# Altium schematic symbol library PCBDEV_Library.SchLib: 236 symbols
Pins are listed as number, name and electrical type; pins without a type are passive.

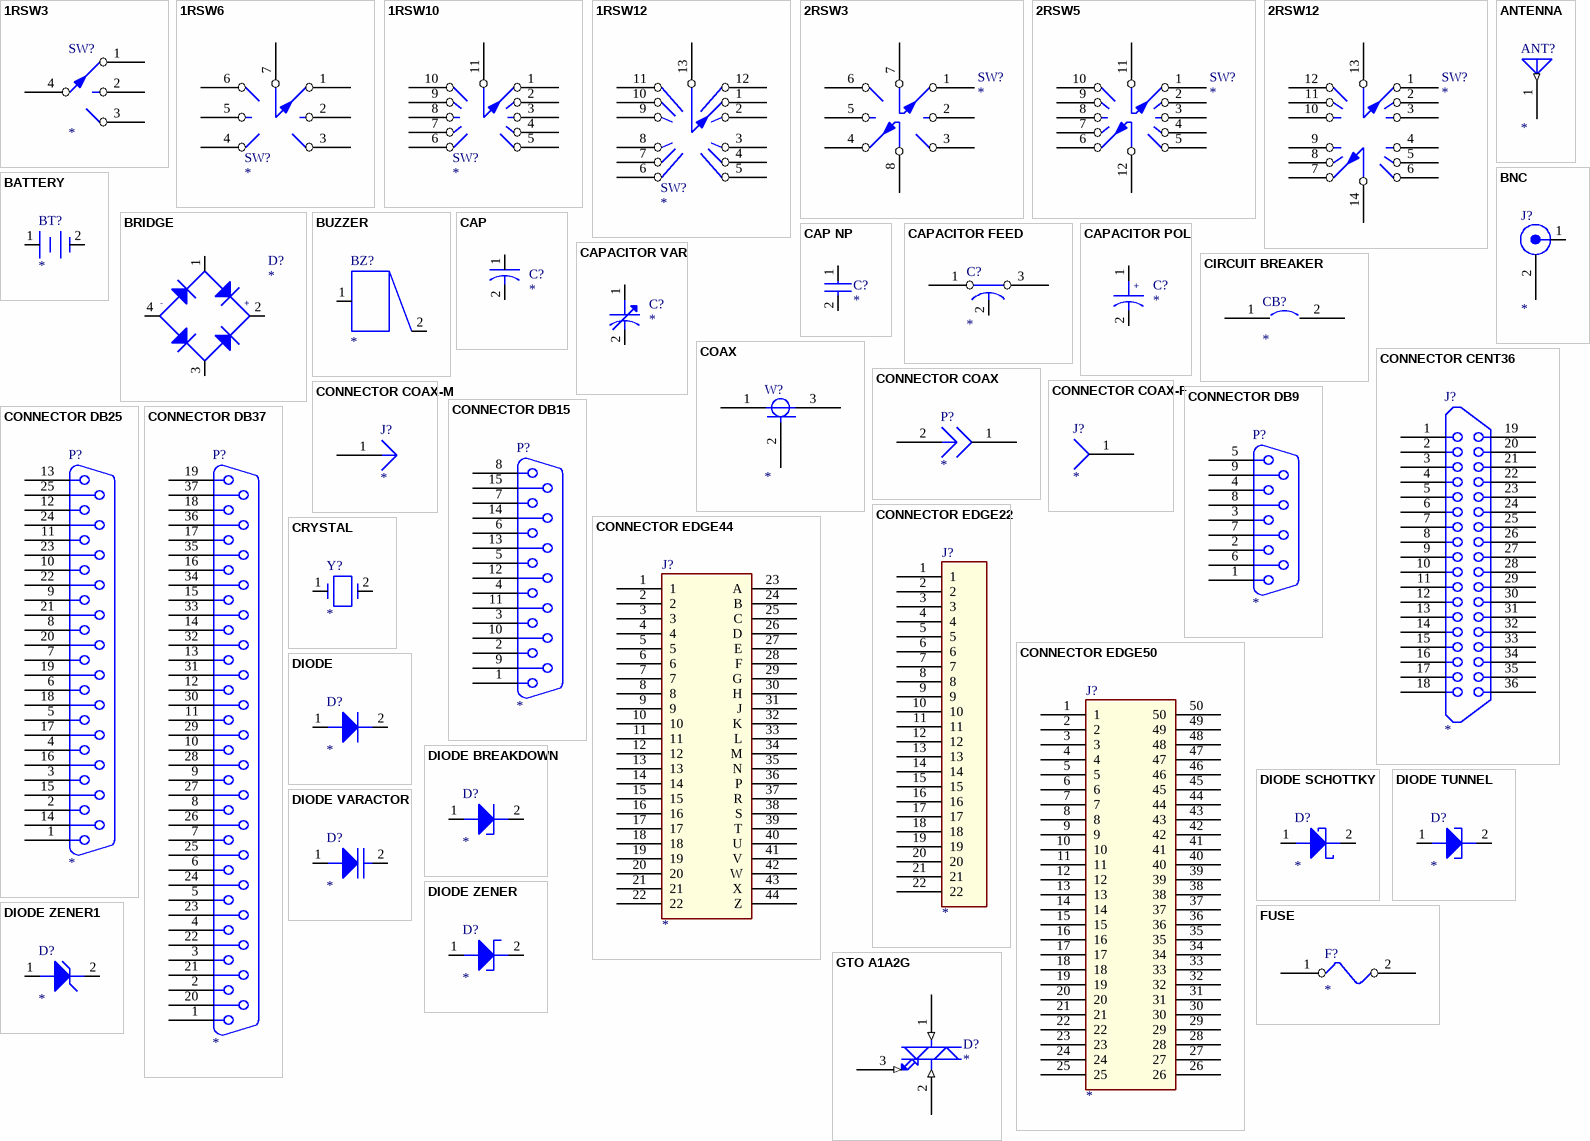
[diagram p0: symbols 1RSW3 to GTO A1A2G]

## 1RSW3
designator SW?
pins: 1 SW1, 2 SW2, 3 SW3, 4 COM

## 1RSW6
designator SW?
pins: 1 SW1, 2 SW2, 3 SW3, 4 SW4, 5 SW5, 6 SW6, 7 COM

## 1RSW10
designator SW?
pins: 1 SW1, 2 SW2, 3 SW3, 4 SW4, 5 SW5, 6 SW6, 7 SW7, 8 SW8, 9 SW9, 10 SW10, 11 COM

## 1RSW12
designator SW?
pins: 1 SW1, 2 SW2, 3 SW3, 4 SW4, 5 SW5, 6 SW6, 7 SW7, 8 SW8, 9 SW9, 10 SW10, 11 SW11, 12 SW12, 13 COM

## 2RSW3
designator SW?
pins: 1 SW1, 2 SW2, 3 SW3, 4 SW4, 5 SW5, 6 SW6, 7 COM1, 8 COM2

## 2RSW5
designator SW?
pins: 1 SW1, 2 SW2, 3 SW3, 4 SW4, 5 SW5, 6 SW6, 7 SW7, 8 SW8, 9 SW9, 10 SW10, 11 COM1, 12 COM2

## 2RSW12
designator SW?
pins: 1 SW1, 2 SW2, 3 SW3, 4 SW4, 5 SW5, 6 SW6, 7 SW7, 8 SW8, 9 SW9, 10 SW10, 11 SW11, 12 SW12, 13 COM1, 14 COM2

## ANTENNA
designator ANT?
pins: 1 (out)

## BATTERY
designator BT?
pins: 1 +, 2 -

## BNC
designator J?
pins: 1 CENTER, 2 SHIELD

## BRIDGE
designator D?
pins: 1 AC IN 1, 2 DC OUT PLUS, 3 AC IN 2, 4 DC OUT MINUS
text: -; +

## BUZZER
designator BZ?
pins: 1 A, 2 B

## CAP
designator C?
pins: 1, 2

## CAP NP
designator C?
pins: 1, 2

## CAPACITOR FEED
designator C?
pins: 1, 2 3, 3 2

## CAPACITOR POL
designator C?
pins: 1, 2
text: +

## CAPACITOR VAR
designator C?
pins: 1, 2

## CIRCUIT BREAKER
designator CB?
pins: 1, 2

## COAX
designator W?
pins: 1 CENTER 1, 2 SHIELD, 3 CENTER 2

## CONNECTOR CENT36
designator J?
pins: 1, 2, 3, 4, 5, 6, 7, 8, 9, 10, 11, 12, 13, 14, 15, 16, 17, 18, 19, 20, 21, 22, 23, 24, 25, 26, 27, 28, 29, 30, 31, 32, 33, 34, 35, 36

## CONNECTOR COAX
designator P?
pins: 1 A, 2 B

## CONNECTOR COAX-F
designator J?
pins: 1 A

## CONNECTOR COAX-M
designator J?
pins: 1 A

## CONNECTOR DB9
designator P?
pins: 1, 2, 3, 4, 5, 6, 7, 8, 9

## CONNECTOR DB15
designator P?
pins: 1, 2, 3, 4, 5, 6, 7, 8, 9, 10, 11, 12, 13, 14, 15

## CONNECTOR DB25
designator P?
pins: 1, 2, 3, 4, 5, 6, 7, 8, 9, 10, 11, 12, 13, 14, 15, 16, 17, 18, 19, 20, 21, 22, 23, 24, 25

## CONNECTOR DB37
designator P?
pins: 1, 2, 3, 4, 5, 6, 7, 8, 9, 10, 11, 12, 13, 14, 15, 16, 17, 18, 19, 20, 21, 22, 23, 24, 25, 26, 27, 28, 29, 30, 31, 32, 33, 34, 35, 36, 37

## CONNECTOR EDGE22
designator J?
pins: 1, 2, 3, 4, 5, 6, 7, 8, 9, 10, 11, 12, 13, 14, 15, 16, 17, 18, 19, 20, 21, 22

## CONNECTOR EDGE44
designator J?
pins: 1, 2, 3, 4, 5, 6, 7, 8, 9, 10, 11, 12, 13, 14, 15, 16, 17, 18, 19, 20, 21, 22, 23 A, 24 B, 25 C, 26 D, 27 E, 28 F, 29 G, 30 H, 31 J, 32 K, 33 L, 34 M, 35 N, 36 P, 37 R, 38 S, 39 T, 40 U, 41 V, 42 W, 43 X, 44 Z

## CONNECTOR EDGE50
designator J?
pins: 1, 2, 3, 4, 5, 6, 7, 8, 9, 10, 11, 12, 13, 14, 15, 16, 17, 18, 19, 20, 21, 22, 23, 24, 25, 26, 27, 28, 29, 30, 31, 32, 33, 34, 35, 36, 37, 38, 39, 40, 41, 42, 43, 44, 45, 46, 47, 48, 49, 50

## CRYSTAL
designator Y?
pins: 1, 2

## DIODE
designator D?
pins: 1 ANODE, 2 CATHODE

## DIODE BREAKDOWN
designator D?
pins: 1 ANODE, 2 CATHODE

## DIODE SCHOTTKY
designator D?
pins: 1 ANODE, 2 CATHODE

## DIODE TUNNEL
designator D?
pins: 1 ANODE, 2 CATHODE

## DIODE VARACTOR
designator D?
pins: 1 ANODE, 2 CATHODE

## DIODE ZENER
designator D?
pins: 1 ANODE, 2 CATHODE

## DIODE ZENER1
designator D?
pins: 1 ANODE, 2 CATHODE

## FUSE
designator F?
pins: 1, 2

## GTO A1A2G
designator D?
pins: 1 ANODE1 (in), 2 ANODE2 (in), 3 GATE (in)

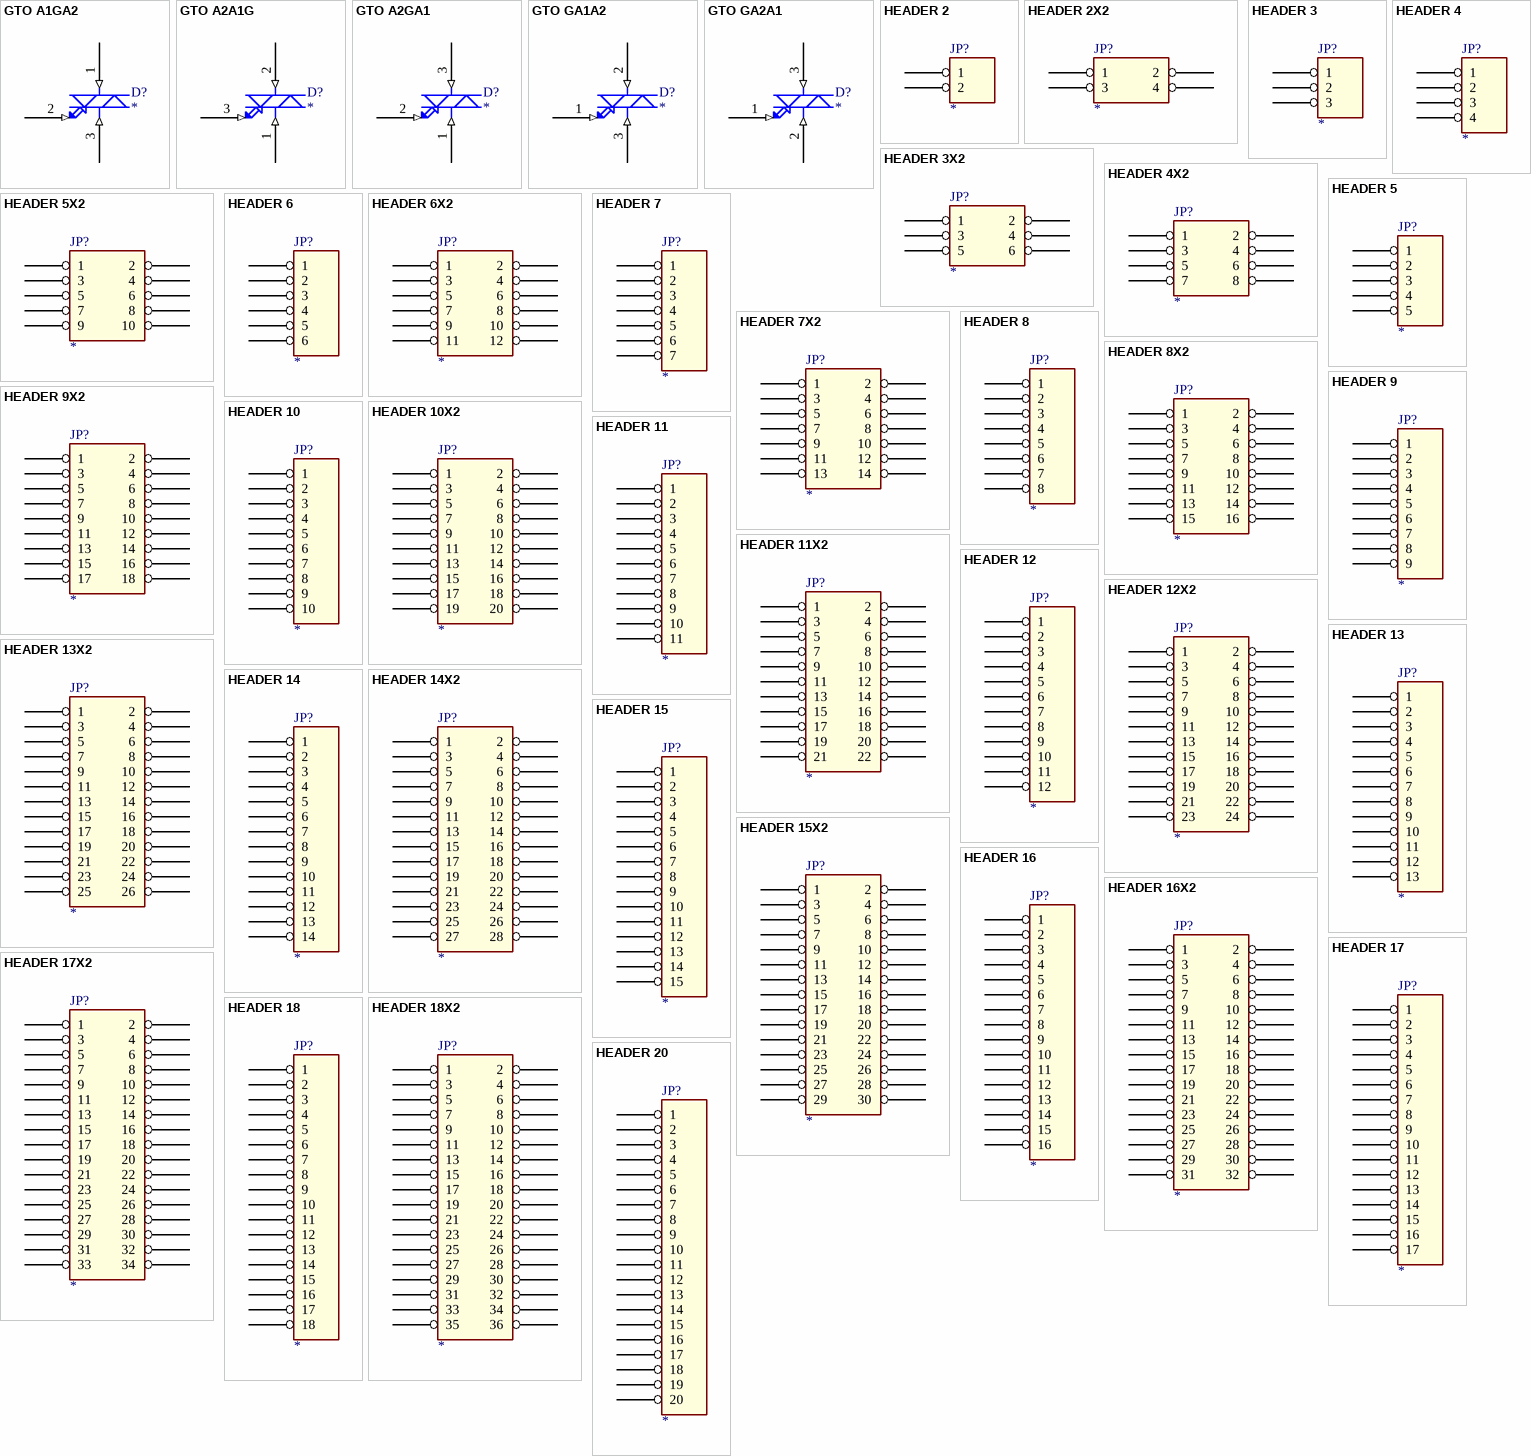
[diagram p1: symbols GTO A1GA2 to HEADER 20]

## GTO A1GA2
designator D?
pins: 1 ANODE1 (in), 2 GATE (in), 3 ANODE2 (in)

## GTO A2A1G
designator D?
pins: 1 ANODE2 (in), 2 ANODE1 (in), 3 GATE (in)

## GTO A2GA1
designator D?
pins: 1 ANODE2 (in), 2 GATE (in), 3 ANODE1 (in)

## GTO GA1A2
designator D?
pins: 1 GATE (in), 2 ANODE1 (in), 3 ANODE2 (in)

## GTO GA2A1
designator D?
pins: 1 GATE (in), 2 ANODE2 (in), 3 ANODE1 (in)

## HEADER 2
designator JP?
pins: 1, 2

## HEADER 2X2
designator JP?
pins: 1, 2, 3, 4

## HEADER 3
designator JP?
pins: 1, 2, 3

## HEADER 3X2
designator JP?
pins: 1, 2, 3, 4, 5, 6

## HEADER 4
designator JP?
pins: 1, 2, 3, 4

## HEADER 4X2
designator JP?
pins: 1, 2, 3, 4, 5, 6, 7, 8

## HEADER 5
designator JP?
pins: 1, 2, 3, 4, 5

## HEADER 5X2
designator JP?
pins: 1, 2, 3, 4, 5, 6, 7, 8, 9, 10

## HEADER 6
designator JP?
pins: 1, 2, 3, 4, 5, 6

## HEADER 6X2
designator JP?
pins: 1, 2, 3, 4, 5, 6, 7, 8, 9, 10, 11, 12

## HEADER 7
designator JP?
pins: 1, 2, 3, 4, 5, 6, 7

## HEADER 7X2
designator JP?
pins: 1, 2, 3, 4, 5, 6, 7, 8, 9, 10, 11, 12, 13, 14

## HEADER 8
designator JP?
pins: 1, 2, 3, 4, 5, 6, 7, 8

## HEADER 8X2
designator JP?
pins: 1, 2, 3, 4, 5, 6, 7, 8, 9, 10, 11, 12, 13, 14, 15, 16

## HEADER 9
designator JP?
pins: 1, 2, 3, 4, 5, 6, 7, 8, 9

## HEADER 9X2
designator JP?
pins: 1, 2, 3, 4, 5, 6, 7, 8, 9, 10, 11, 12, 13, 14, 15, 16, 17, 18

## HEADER 10
designator JP?
pins: 1, 2, 3, 4, 5, 6, 7, 8, 9, 10

## HEADER 10X2
designator JP?
pins: 1, 2, 3, 4, 5, 6, 7, 8, 9, 10, 11, 12, 13, 14, 15, 16, 17, 18, 19, 20

## HEADER 11
designator JP?
pins: 1, 2, 3, 4, 5, 6, 7, 8, 9, 10, 11

## HEADER 11X2
designator JP?
pins: 1, 2, 3, 4, 5, 6, 7, 8, 9, 10, 11, 12, 13, 14, 15, 16, 17, 18, 19, 20, 21, 22

## HEADER 12
designator JP?
pins: 1, 2, 3, 4, 5, 6, 7, 8, 9, 10, 11, 12

## HEADER 12X2
designator JP?
pins: 1, 2, 3, 4, 5, 6, 7, 8, 9, 10, 11, 12, 13, 14, 15, 16, 17, 18, 19, 20, 21, 22, 23, 24

## HEADER 13
designator JP?
pins: 1, 2, 3, 4, 5, 6, 7, 8, 9, 10, 11, 12, 13

## HEADER 13X2
designator JP?
pins: 1, 2, 3, 4, 5, 6, 7, 8, 9, 10, 11, 12, 13, 14, 15, 16, 17, 18, 19, 20, 21, 22, 23, 24, 25, 26

## HEADER 14
designator JP?
pins: 1, 2, 3, 4, 5, 6, 7, 8, 9, 10, 11, 12, 13, 14

## HEADER 14X2
designator JP?
pins: 1, 2, 3, 4, 5, 6, 7, 8, 9, 10, 11, 12, 13, 14, 15, 16, 17, 18, 19, 20, 21, 22, 23, 24, 25, 26, 27, 28

## HEADER 15
designator JP?
pins: 1, 2, 3, 4, 5, 6, 7, 8, 9, 10, 11, 12, 13, 14, 15

## HEADER 15X2
designator JP?
pins: 1, 2, 3, 4, 5, 6, 7, 8, 9, 10, 11, 12, 13, 14, 15, 16, 17, 18, 19, 20, 21, 22, 23, 24, 25, 26, 27, 28, 29, 30

## HEADER 16
designator JP?
pins: 1, 2, 3, 4, 5, 6, 7, 8, 9, 10, 11, 12, 13, 14, 15, 16

## HEADER 16X2
designator JP?
pins: 1, 2, 3, 4, 5, 6, 7, 8, 9, 10, 11, 12, 13, 14, 15, 16, 17, 18, 19, 20, 21, 22, 23, 24, 25, 26, 27, 28, 29, 30, 31, 32

## HEADER 17
designator JP?
pins: 1, 2, 3, 4, 5, 6, 7, 8, 9, 10, 11, 12, 13, 14, 15, 16, 17

## HEADER 17X2
designator JP?
pins: 1, 2, 3, 4, 5, 6, 7, 8, 9, 10, 11, 12, 13, 14, 15, 16, 17, 18, 19, 20, 21, 22, 23, 24, 25, 26, 27, 28, 29, 30, 31, 32, 33, 34

## HEADER 18
designator JP?
pins: 1, 2, 3, 4, 5, 6, 7, 8, 9, 10, 11, 12, 13, 14, 15, 16, 17, 18

## HEADER 18X2
designator JP?
pins: 1, 2, 3, 4, 5, 6, 7, 8, 9, 10, 11, 12, 13, 14, 15, 16, 17, 18, 19, 20, 21, 22, 23, 24, 25, 26, 27, 28, 29, 30, 31, 32, 33, 34, 35, 36

## HEADER 20
designator JP?
pins: 1, 2, 3, 4, 5, 6, 7, 8, 9, 10, 11, 12, 13, 14, 15, 16, 17, 18, 19, 20

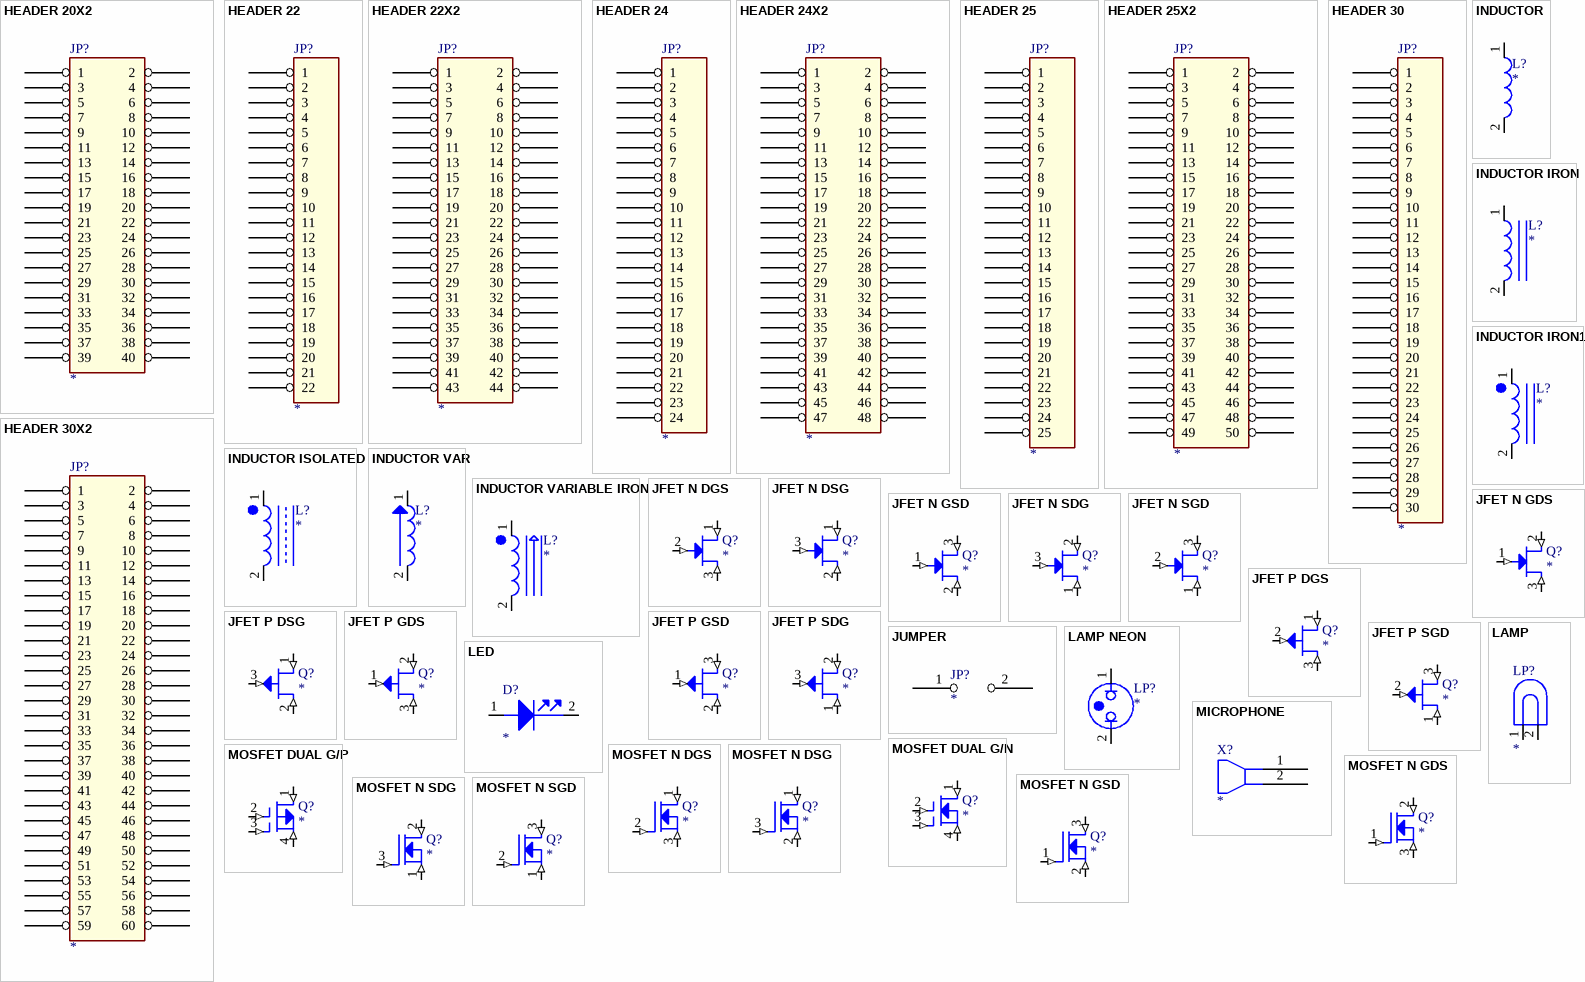
[diagram p2: symbols HEADER 20X2 to MOSFET N SGD]

## HEADER 20X2
designator JP?
pins: 1, 2, 3, 4, 5, 6, 7, 8, 9, 10, 11, 12, 13, 14, 15, 16, 17, 18, 19, 20, 21, 22, 23, 24, 25, 26, 27, 28, 29, 30, 31, 32, 33, 34, 35, 36, 37, 38, 39, 40

## HEADER 22
designator JP?
pins: 1, 2, 3, 4, 5, 6, 7, 8, 9, 10, 11, 12, 13, 14, 15, 16, 17, 18, 19, 20, 21, 22

## HEADER 22X2
designator JP?
pins: 1, 2, 3, 4, 5, 6, 7, 8, 9, 10, 11, 12, 13, 14, 15, 16, 17, 18, 19, 20, 21, 22, 23, 24, 25, 26, 27, 28, 29, 30, 31, 32, 33, 34, 35, 36, 37, 38, 39, 40, 41, 42, 43, 44

## HEADER 24
designator JP?
pins: 1, 2, 3, 4, 5, 6, 7, 8, 9, 10, 11, 12, 13, 14, 15, 16, 17, 18, 19, 20, 21, 22, 23, 24

## HEADER 24X2
designator JP?
pins: 1, 2, 3, 4, 5, 6, 7, 8, 9, 10, 11, 12, 13, 14, 15, 16, 17, 18, 19, 20, 21, 22, 23, 24, 25, 26, 27, 28, 29, 30, 31, 32, 33, 34, 35, 36, 37, 38, 39, 40, 41, 42, 43, 44, 45, 46, 47, 48

## HEADER 25
designator JP?
pins: 1, 2, 3, 4, 5, 6, 7, 8, 9, 10, 11, 12, 13, 14, 15, 16, 17, 18, 19, 20, 21, 22, 23, 24, 25

## HEADER 25X2
designator JP?
pins: 1, 2, 3, 4, 5, 6, 7, 8, 9, 10, 11, 12, 13, 14, 15, 16, 17, 18, 19, 20, 21, 22, 23, 24, 25, 26, 27, 28, 29, 30, 31, 32, 33, 34, 35, 36, 37, 38, 39, 40, 41, 42, 43, 44, 45, 46, 47, 48, 49, 50

## HEADER 30
designator JP?
pins: 1, 2, 3, 4, 5, 6, 7, 8, 9, 10, 11, 12, 13, 14, 15, 16, 17, 18, 19, 20, 21, 22, 23, 24, 25, 26, 27, 28, 29, 30

## HEADER 30X2
designator JP?
pins: 1, 2, 3, 4, 5, 6, 7, 8, 9, 10, 11, 12, 13, 14, 15, 16, 17, 18, 19, 20, 21, 22, 23, 24, 25, 26, 27, 28, 29, 30, 31, 32, 33, 34, 35, 36, 37, 38, 39, 40, 41, 42, 43, 44, 45, 46, 47, 48, 49, 50, 51, 52, 53, 54, 55, 56, 57, 58, 59, 60

## INDUCTOR
designator L?
pins: 1, 2

## INDUCTOR IRON
designator L?
pins: 1, 2

## INDUCTOR IRON1
designator L?
pins: 1, 2

## INDUCTOR ISOLATED
designator L?
pins: 1, 2

## INDUCTOR VAR
designator L?
pins: 1, 2

## INDUCTOR VARIABLE IRON
designator L?
pins: 1, 2

## JFET N DGS
designator Q?
pins: 1 DRAIN (in), 2 GATE (in), 3 SOURCE (in)

## JFET N DSG
designator Q?
pins: 1 DRAIN (in), 2 SOURCE (in), 3 GATE (in)

## JFET N GDS
designator Q?
pins: 1 GATE (in), 2 DRAIN (in), 3 SOURCE (in)

## JFET N GSD
designator Q?
pins: 1 GATE (in), 2 SOURCE (in), 3 DRAIN (in)

## JFET N SDG
designator Q?
pins: 1 SOURCE (in), 2 DRAIN (in), 3 GATE (in)

## JFET N SGD
designator Q?
pins: 1 SOURCE (in), 2 GATE (in), 3 DRAIN (in)

## JFET P DGS
designator Q?
pins: 1 DRAIN (in), 2 GATE (in), 3 SOURCE (in)

## JFET P DSG
designator Q?
pins: 1 DRAIN (in), 2 SOURCE (in), 3 GATE (in)

## JFET P GDS
designator Q?
pins: 1 GATE (in), 2 DRAIN (in), 3 SOURCE (in)

## JFET P GSD
designator Q?
pins: 1 GATE (in), 2 SOURCE (in), 3 DRAIN (in)

## JFET P SDG
designator Q?
pins: 1 SOURCE (in), 2 DRAIN (in), 3 GATE (in)

## JFET P SGD
designator Q?
pins: 1 SOURCE (in), 2 GATE (in), 3 DRAIN (in)

## JUMPER
designator JP?
pins: 1, 2

## LAMP
designator LP?
pins: 1, 2

## LAMP NEON
designator LP?
pins: 1, 2

## LED
designator D?
pins: 1 ANODE, 2 CATHODE

## MICROPHONE
designator X?
pins: 1, 2

## MOSFET DUAL G/N
designator Q?
pins: 1 DRAIN (in), 2 GATE2 (in), 3 GATE1 (in), 4 SOURCE (in)

## MOSFET DUAL G/P
designator Q?
pins: 1 DRAIN (in), 2 GATE2 (in), 3 GATE1 (in), 4 SOURCE (in)

## MOSFET N DGS
designator Q?
pins: 1 DRAIN (in), 2 GATE (in), 3 SOURCE (in)

## MOSFET N DSG
designator Q?
pins: 1 DRAIN (in), 2 SOURCE (in), 3 GATE (in)

## MOSFET N GDS
designator Q?
pins: 1 GATE (in), 2 DRAIN (in), 3 SOURCE (in)

## MOSFET N GSD
designator Q?
pins: 1 GATE (in), 2 SOURCE (in), 3 DRAIN (in)

## MOSFET N SDG
designator Q?
pins: 1 SOURCE (in), 2 DRAIN (in), 3 GATE (in)

## MOSFET N SGD
designator Q?
pins: 1 SOURCE (in), 2 GATE (in), 3 DRAIN (in)

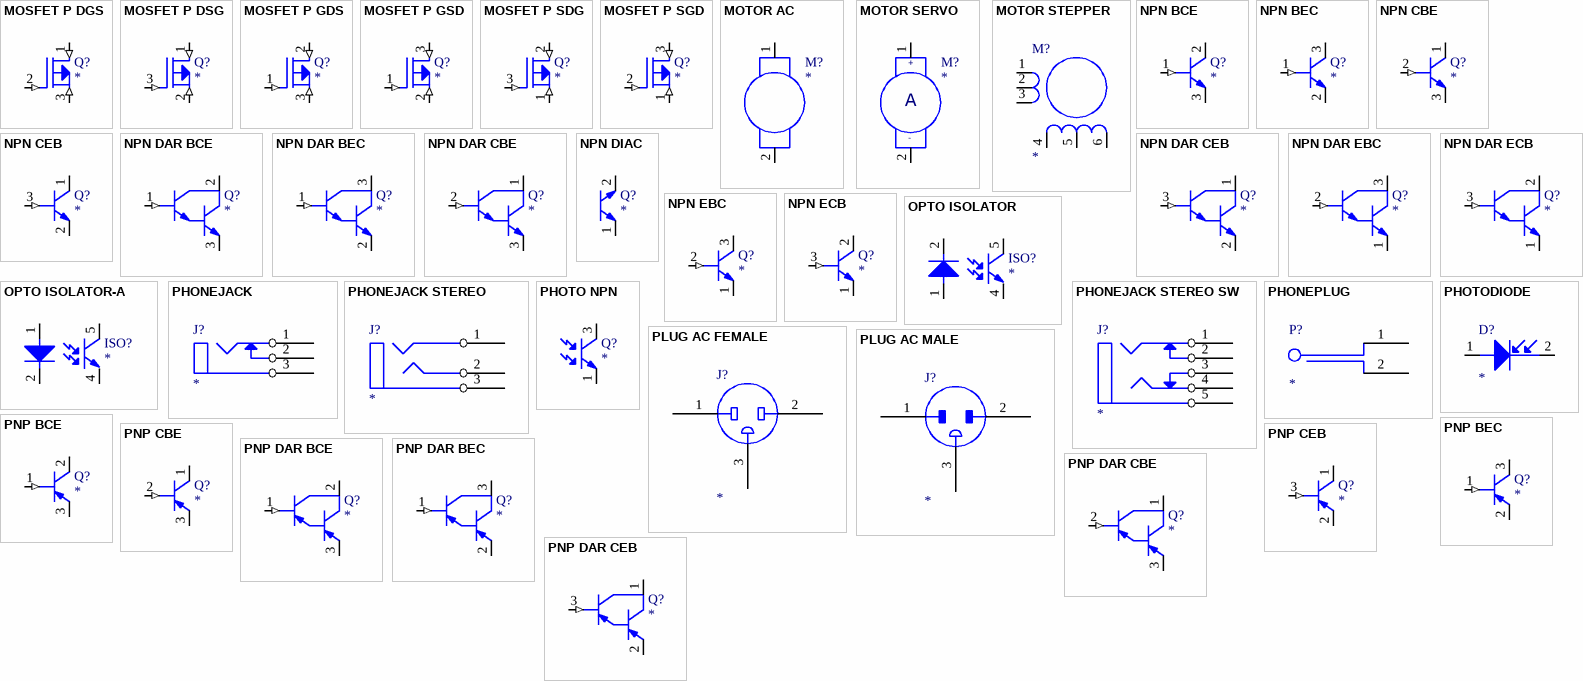
[diagram p3: symbols MOSFET P DGS to PNP DAR CEB]

## MOSFET P DGS
designator Q?
pins: 1 DRAIN (in), 2 GATE (in), 3 SOURCE (in)

## MOSFET P DSG
designator Q?
pins: 1 DRAIN (in), 2 SOURCE (in), 3 GATE (in)

## MOSFET P GDS
designator Q?
pins: 1 GATE (in), 2 DRAIN (in), 3 SOURCE (in)

## MOSFET P GSD
designator Q?
pins: 1 GATE (in), 2 SOURCE (in), 3 DRAIN (in)

## MOSFET P SDG
designator Q?
pins: 1 SOURCE (in), 2 DRAIN (in), 3 GATE (in)

## MOSFET P SGD
designator Q?
pins: 1 SOURCE (in), 2 GATE (in), 3 DRAIN (in)

## MOTOR AC
designator M?
pins: 1, 2

## MOTOR SERVO
designator M?
pins: 1 +, 2 -
text: A

## MOTOR STEPPER
designator M?
pins: 1, 2, 3, 4, 5, 6

## NPN BCE
designator Q?
pins: 1 BASE (in), 2 COLLECTOR, 3 EMITTER

## NPN BEC
designator Q?
pins: 1 BASE (in), 2 EMITTER, 3 COLLECTOR

## NPN CBE
designator Q?
pins: 1 COLLECTOR, 2 BASE (in), 3 EMITTER

## NPN CEB
designator Q?
pins: 1 COLLECTOR, 2 EMITTER, 3 BASE (in)

## NPN DAR BCE
designator Q?
pins: 1 BASE (in), 2 COLLECTOR, 3 EMITTER

## NPN DAR BEC
designator Q?
pins: 1 BASE (in), 2 EMITTER, 3 COLLECTOR

## NPN DAR CBE
designator Q?
pins: 1 COLLECTOR, 2 BASE (in), 3 EMITTER

## NPN DAR CEB
designator Q?
pins: 1 COLLECTOR, 2 EMITTER, 3 BASE (in)

## NPN DAR EBC
designator Q?
pins: 1 EMITTER, 2 BASE (in), 3 COLLECTOR

## NPN DAR ECB
designator Q?
pins: 1 EMITTER, 2 COLLECTOR, 3 BASE (in)

## NPN DIAC
designator Q?
pins: 1 EMITTER1, 2 EMITTER2

## NPN EBC
designator Q?
pins: 1 EMITTER, 2 BASE (in), 3 COLLECTOR

## NPN ECB
designator Q?
pins: 1 EMITTER, 2 COLLECTOR, 3 BASE (in)

## OPTO ISOLATOR
designator ISO?
pins: 1 ANODE, 2 CATHODE, 4 EMITTER, 5 COLLECTOR

## OPTO ISOLATOR-A
designator ISO?
pins: 1 ANODE, 2 CATHODE, 4 EMITTER, 5 COLLECTOR

## PHONEJACK
designator J?
pins: 1, 2, 3

## PHONEJACK STEREO
designator J?
pins: 1 A, 2 B, 3 C

## PHONEJACK STEREO SW
designator J?
pins: 1 A, 2 B, 3 C, 4 D, 5 E

## PHONEPLUG
designator P?
pins: 1, 2

## PHOTO NPN
designator Q?
pins: 1 EMITTER, 3 COLLECTOR

## PHOTODIODE
designator D?
pins: 1 ANODE, 2 CATHODE

## PLUG AC FEMALE
designator J?
pins: 1 A, 2 B, 3 GND

## PLUG AC MALE
designator J?
pins: 1 A, 2 B, 3 GND

## PNP BCE
designator Q?
pins: 1 BASE (in), 2 COLLECTOR, 3 EMITTER

## PNP BEC
designator Q?
pins: 1 BASE (in), 2 EMITTER, 3 COLLECTOR

## PNP CBE
designator Q?
pins: 1 COLLECTOR, 2 BASE (in), 3 EMITTER

## PNP CEB
designator Q?
pins: 1 COLLECTOR, 2 EMITTER, 3 BASE (in)

## PNP DAR BCE
designator Q?
pins: 1 (in), 2 COLLECTOR, 3 EMITTER

## PNP DAR BEC
designator Q?
pins: 1 BASE (in), 2 EMITTER, 3 COLLECTOR

## PNP DAR CBE
designator Q?
pins: 1 COLLECTOR, 2 BASE (in), 3 EMITTER

## PNP DAR CEB
designator Q?
pins: 1 COLLECTOR, 2 EMITTER, 3 BASE (in)

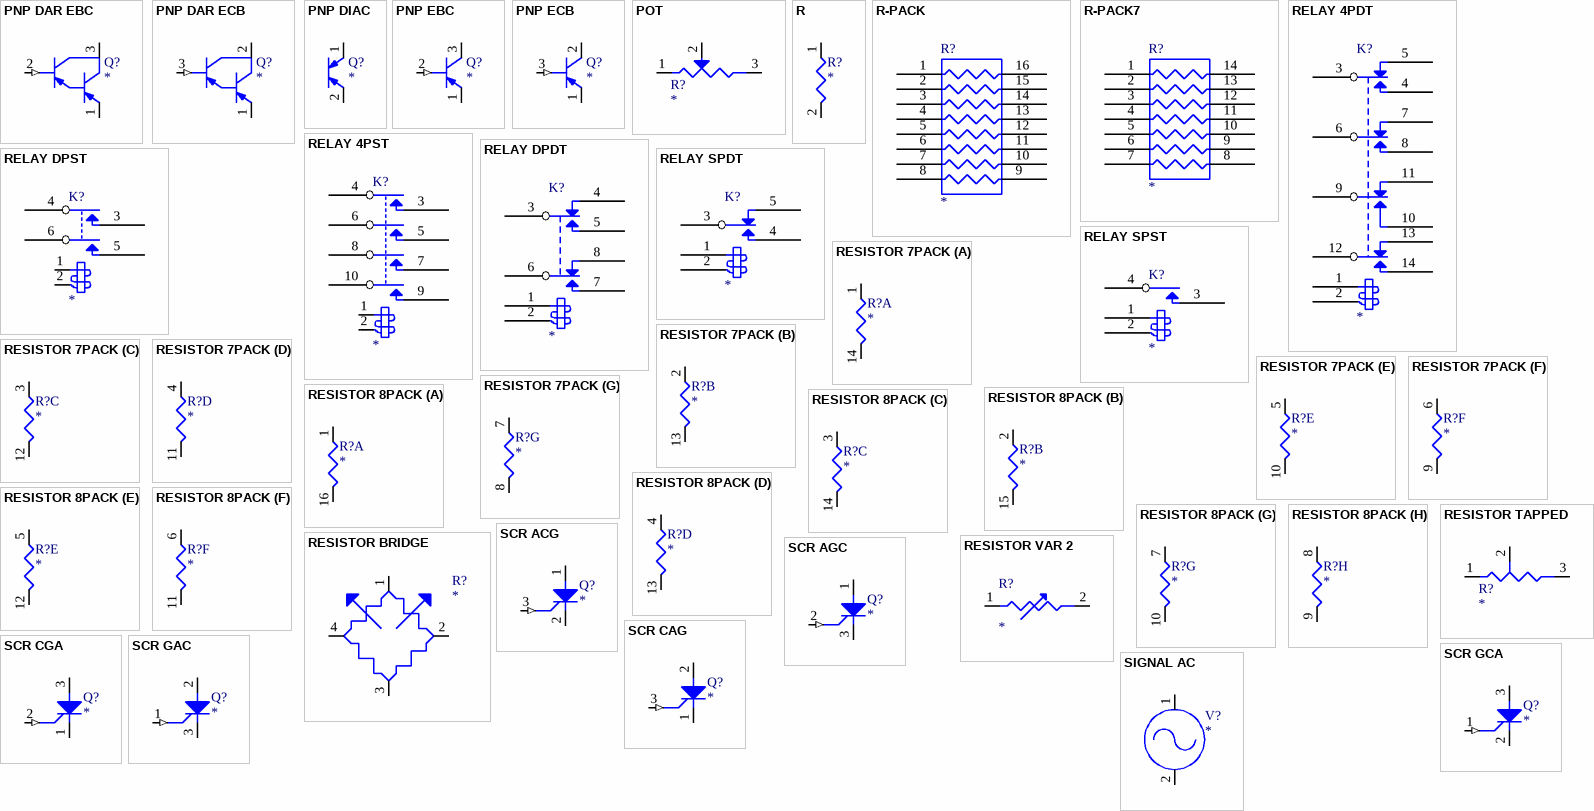
[diagram p4: symbols PNP DAR EBC to SIGNAL AC]

## PNP DAR EBC
designator Q?
pins: 1 EMITTER, 2 BASE (in), 3 COLLECTOR

## PNP DAR ECB
designator Q?
pins: 1 EMITTER, 2 COLLECTOR, 3 BASE (in)

## PNP DIAC
designator Q?
pins: 1 EMITTER1, 2 EMITTER2

## PNP EBC
designator Q?
pins: 1 EMITTER, 2 BASE (in), 3 COLLECTOR

## PNP ECB
designator Q?
pins: 1 EMITTER, 2 COLLECTOR, 3 BASE (in)

## POT
designator R?
pins: 1 A, 2 WIPER, 3 B

## R
designator R?
pins: 1, 2

## R-PACK
designator R?
pins: 1 R1, 2 R2, 3 R3, 4 R4, 5 R5, 6 R6, 7 R7, 8 R8, 9 R8, 10 R7, 11 R6, 12 R5, 13 R4, 14 R3, 15 R2, 16 R1

## R-PACK7
designator R?
pins: 1 R1, 2 R2, 3 R3, 4 R4, 5 R5, 6 R6, 7 R7, 8 R7, 9 R6, 10 R5, 11 R4, 12 R3, 13 R2, 14 R1

## RELAY 4PDT
designator K?
pins: 1 COIL1, 2 COIL2, 3 COMMON1, 4 NO1, 5 NC1, 6 COMMON2, 7 NC2, 8 NO2, 9 COMMON3, 10 NO3, 11 NC3, 12 COMMON4, 13 NC4, 14 NO4

## RELAY 4PST
designator K?
pins: 1 COIL1, 2 COIL2, 3 NO1, 4 COMMON1, 5 NO2, 6 COMMON2, 7 NO3, 8 COMMON3, 9 NO4, 10 COMMON4

## RELAY DPDT
designator K?
pins: 1 COIL1, 2 COIL2, 3 COMMON1, 4 NC1, 5 NO1, 6 COMMON2, 7 NO2, 8 NC2

## RELAY DPST
designator K?
pins: 1 COIL1, 2 COIL2, 3 NO1, 4 COMMON1, 5 NO2, 6 COMMON2

## RELAY SPDT
designator K?
pins: 1 COIL1, 2 COIL2, 3 COMMON, 4 NO, 5 NC

## RELAY SPST
designator K?
pins: 1 COIL1, 2 COIL2, 3 NO, 4 COMMON

## RESISTOR 7PACK
designator R?
part A pins: 1, 14 2
part B pins: 2 1, 13 2
part C pins: 3 1, 12 2
part D pins: 4 1, 11 2
part E pins: 5 1, 10 2
part F pins: 6 1, 9 2
part G pins: 7 1, 8 2

## RESISTOR 8PACK
designator R?
part A pins: 1, 16 2
part B pins: 2 1, 15 2
part C pins: 3 1, 14 2
part D pins: 4 1, 13 2
part E pins: 5 1, 12 2
part F pins: 6 1, 11 2
part G pins: 7 1, 10 2
part H pins: 8 1, 9 2

## RESISTOR BRIDGE
designator R?
pins: 1, 2, 3, 4

## RESISTOR TAPPED
designator R?
pins: 1 A, 2 TAP, 3 B

## RESISTOR VAR 2
designator R?
pins: 1, 2

## SCR ACG
designator Q?
pins: 1 ANODE, 2 CATHODE, 3 GATE (in)

## SCR AGC
designator Q?
pins: 1 ANODE, 2 GATE (in), 3 CATHODE

## SCR CAG
designator Q?
pins: 1 CATHODE, 2 ANODE, 3 GATE (in)

## SCR CGA
designator Q?
pins: 1 CATHODE, 2 GATE (in), 3 ANODE

## SCR GAC
designator Q?
pins: 1 GATE (in), 2 ANODE, 3 CATHODE

## SCR GCA
designator Q?
pins: 1 GATE (in), 2 CATHODE, 3 ANODE

## SIGNAL AC
designator V?
pins: 1, 2

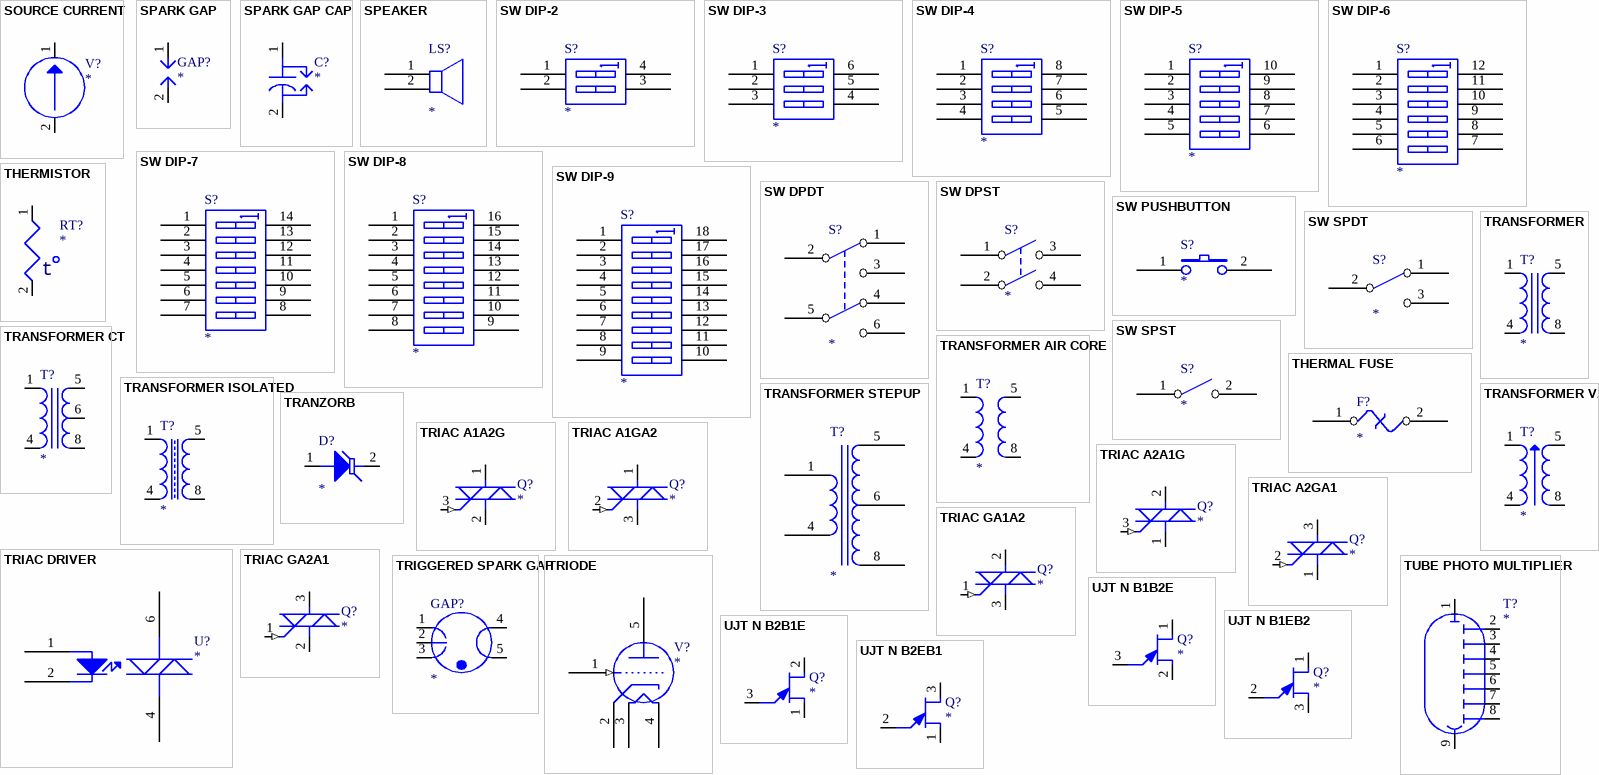
[diagram p5: symbols SOURCE CURRENT to UJT N B2EB1]

## SOURCE CURRENT
designator V?
pins: 1, 2

## SPARK GAP
designator GAP?
pins: 1, 2

## SPARK GAP CAP
designator C?
pins: 1, 2

## SPEAKER
designator LS?
pins: 1, 2

## SW DIP-2
designator S?
pins: 1 A1, 2 A2, 3 B2, 4 B1

## SW DIP-3
designator S?
pins: 1 A1, 2 A2, 3 A3, 4 B3, 5 B2, 6 B1

## SW DIP-4
designator S?
pins: 1 A1, 2 A2, 3 A3, 4 A4, 5 B4, 6 B3, 7 B2, 8 B1

## SW DIP-5
designator S?
pins: 1 A1, 2 A2, 3 A3, 4 A4, 5 A5, 6 B5, 7 B4, 8 B3, 9 B2, 10 B1

## SW DIP-6
designator S?
pins: 1 A1, 2 A2, 3 A3, 4 A4, 5 A5, 6 A6, 7 B6, 8 B5, 9 B4, 10 B3, 11 B2, 12 B1

## SW DIP-7
designator S?
pins: 1 A1, 2 A2, 3 A3, 4 A4, 5 A5, 6 A6, 7 A7, 8 B7, 9 B6, 10 B5, 11 B4, 12 B3, 13 B2, 14 B1

## SW DIP-8
designator S?
pins: 1 A1, 2 A2, 3 A3, 4 A4, 5 A5, 6 A6, 7 A7, 8 A8, 9 B8, 10 B7, 11 B6, 12 B5, 13 B4, 14 B3, 15 B2, 16 B1

## SW DIP-9
designator S?
pins: 1 A1, 2 A2, 3 A3, 4 A4, 5 A5, 6 A6, 7 A7, 8 A8, 9 A9, 10 B9, 11 B8, 12 B7, 13 B6, 14 B5, 15 B4, 16 B3, 17 B2, 18 B1

## SW DPDT
designator S?
pins: 1 NC1, 2 COMMON1, 3 NO1, 4 NC2, 5 COMMON2, 6 NO2

## SW DPST
designator S?
pins: 1 COMMON1, 2 COMMON2, 3 NO1, 4 NO2

## SW PUSHBUTTON
designator S?
pins: 1, 2

## SW SPDT
designator S?
pins: 1 NC, 2 COMMON, 3 NO

## SW SPST
designator S?
pins: 1 COMMON, 2 NO

## THERMAL FUSE
designator F?
pins: 1, 2

## THERMISTOR
designator RT?
pins: 1, 2
text: t

## TRANSFORMER
designator T?
pins: 1 IN1, 4 IN2, 5 OUT1, 8 OUT2

## TRANSFORMER AIR CORE
designator T?
pins: 1 IN1, 4 IN2, 5 OUT1, 8 OUT2

## TRANSFORMER CT
designator T?
pins: 1 IN1, 4 IN2, 5 OUT1, 6 OUT-CT, 8 OUT2

## TRANSFORMER ISOLATED
designator T?
pins: 1 IN1, 4 IN2, 5 OUT1, 8 OUT2

## TRANSFORMER STEPUP
designator T?
pins: 1 AA, 4 AB, 5 BA, 6 BCT, 8 BB

## TRANSFORMER VAR
designator T?
pins: 1 IN1, 4 IN2, 5 OUT1, 8 OUT2

## TRANZORB
designator D?
pins: 1 ANODE, 2 CATHODE

## TRIAC A1A2G
designator Q?
pins: 1 ANODE1, 2 ANODE2, 3 GATE (in)

## TRIAC A1GA2
designator Q?
pins: 1 ANODE1, 2 GATE (in), 3 ANODE2

## TRIAC A2A1G
designator Q?
pins: 1 ANODE2, 2 ANODE1, 3 GATE (in)

## TRIAC A2GA1
designator Q?
pins: 1 ANODE2, 2 GATE (in), 3 ANODE1

## TRIAC DRIVER
designator U?
pins: 1 ANODE, 2 CATHODE, 4 ANODE2, 6 ANODE1

## TRIAC GA1A2
designator Q?
pins: 1 GATE (in), 2 ANODE1, 3 ANODE2

## TRIAC GA2A1
designator Q?
pins: 1 GATE (in), 2 ANODE2, 3 ANODE1

## TRIGGERED SPARK GAP
designator GAP?
pins: 1, 2, 3, 4, 5

## TRIODE
designator V?
pins: 1 GRID (in), 2 CATHODE, 3 FILAMENT1, 4 FILAMENT2, 5 PLATE

## TUBE PHOTO MULTIPLIER
designator T?
pins: 1, 2, 3, 4, 5, 6, 7, 8, 9

## UJT N B1B2E
designator Q?
pins: 1 BASE1, 2 BASE2, 3 EMITTER

## UJT N B1EB2
designator Q?
pins: 1 BASE1, 2 EMITTER, 3 BASE2

## UJT N B2B1E
designator Q?
pins: 1 BASE2, 2 BASE1, 3 EMITTER

## UJT N B2EB1
designator Q?
pins: 1 BASE2, 2 EMITTER, 3 BASE1

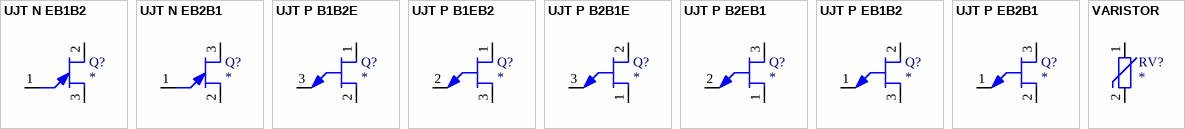
[diagram p6: symbols UJT N EB1B2 to VARISTOR]

## UJT N EB1B2
designator Q?
pins: 1 EMITTER, 2 BASE1, 3 BASE2

## UJT N EB2B1
designator Q?
pins: 1 EMITTER, 2 BASE2, 3 BASE1

## UJT P B1B2E
designator Q?
pins: 1 BASE1, 2 BASE2, 3 EMITTER

## UJT P B1EB2
designator Q?
pins: 1 BASE1, 2 EMITTER, 3 BASE2

## UJT P B2B1E
designator Q?
pins: 1 BASE2, 2 BASE1, 3 EMITTER

## UJT P B2EB1
designator Q?
pins: 1 BASE2, 2 EMITTER, 3 BASE1

## UJT P EB1B2
designator Q?
pins: 1 EMITTER, 2 BASE1, 3 BASE2

## UJT P EB2B1
designator Q?
pins: 1 EMITTER, 2 BASE2, 3 BASE1

## VARISTOR
designator RV?
pins: 1, 2